# Altium footprint library imd_components.PcbLib: 16 footprints
Each footprint in its own frame and in the unit in brackets; x right, y up, seen from the top. Pads: shape width x height; smd on the part's side, far side on the other; paste and mask are expansions set on the pad; w line width, h text height; cw(c..) or ccw(c..) is an arc to the next point about the centre after c.
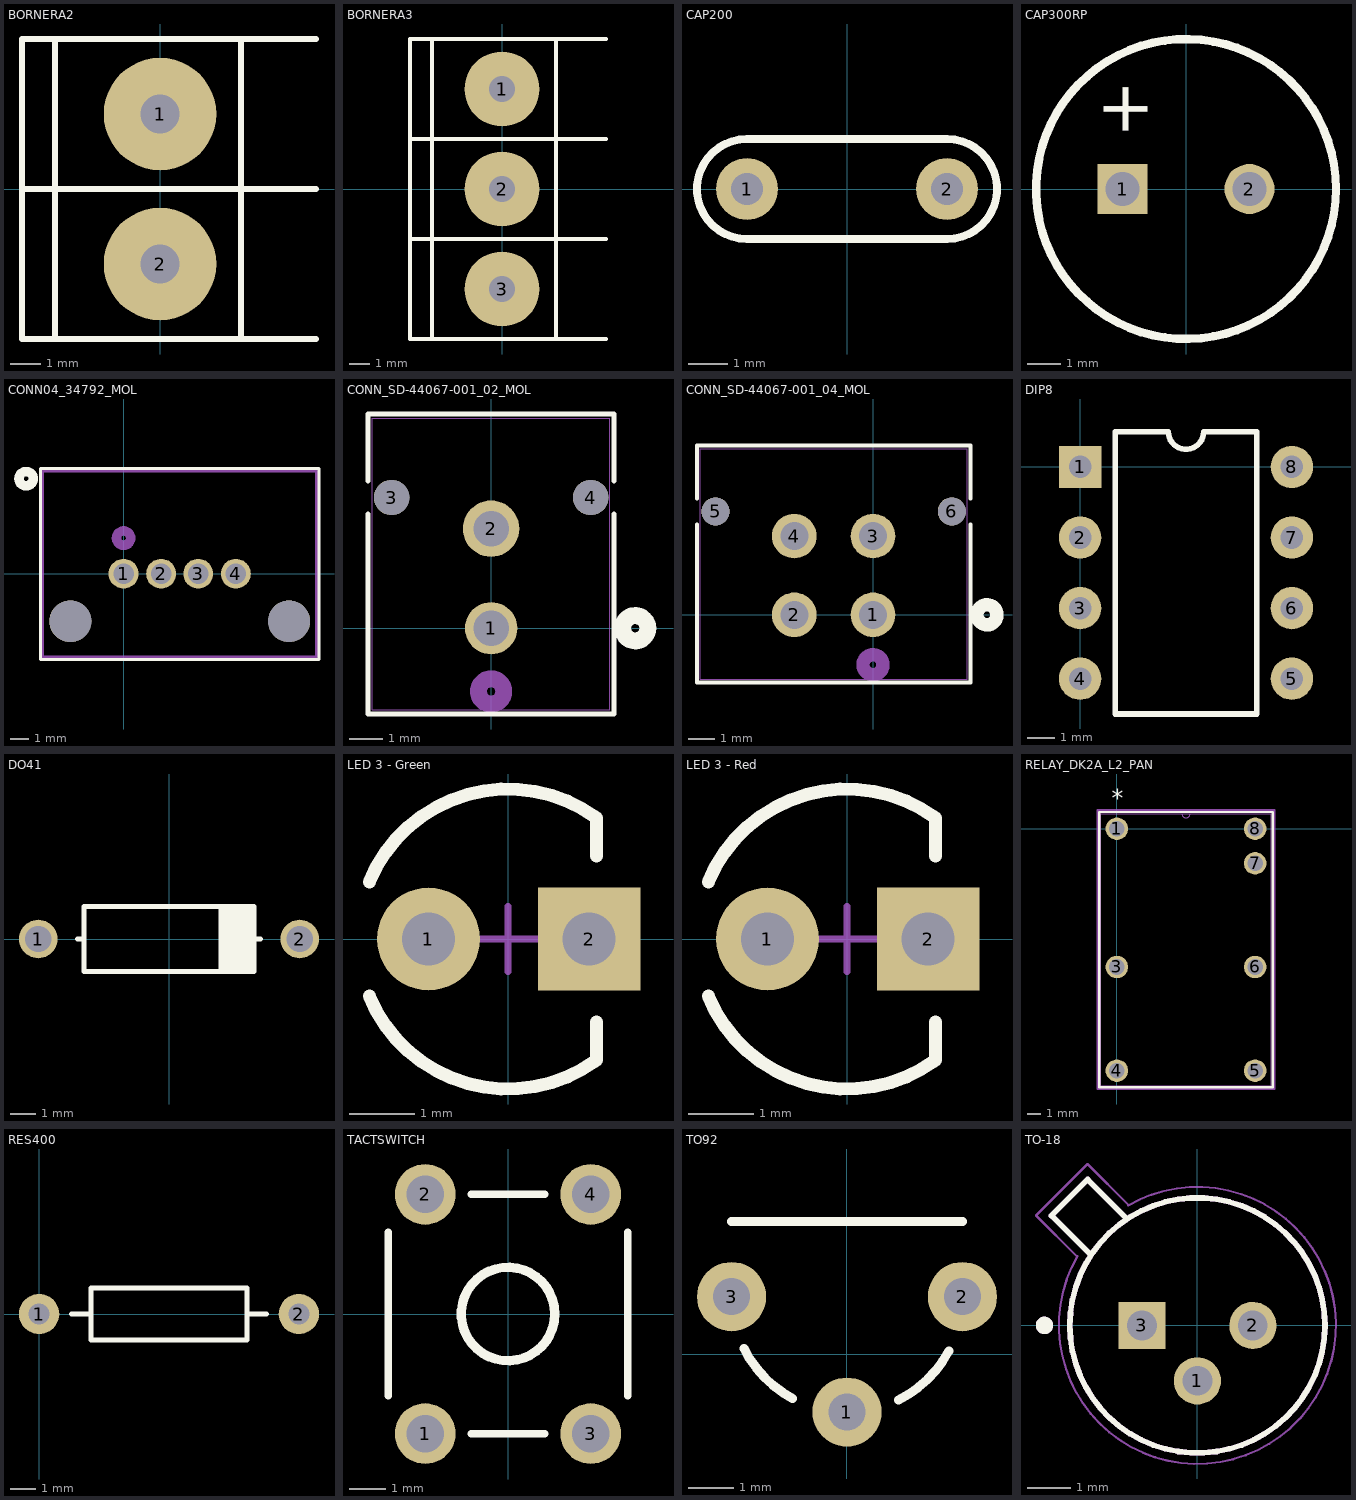
[diagram p0: the footprints below, top view; thin cyan lines are the x and y axes]

## BORNERA2 [mm] "Bornera con Tornillos 5mm separación"
pads (2):
  round 3.75 hole 1.3: 1(0,2.5) 2(0,-2.5)
Top Overlay:
  lines w0.2: -4.6,0 5.2,0 ; -3.5,-5 -3.5,5 ; 2.7,-5 2.7,5 ; 5.2,-5 -4.6,-5 -4.6,5 5.2,5
3D body "BORNERA_2.step": height 10, standoff -2.28, extent -3.763,-4.893 3.937,5.607

## BORNERA3 [mm] "Bornera con Tornillos 5mm separación"
pads (3):
  round 3.75 hole 1.3: 1(0,5) 2(0,0) 3(0,-5)
Top Overlay:
  lines w0.2: -4.6,-2.5 5.2,-2.5 ; -4.6,2.5 5.2,2.5 ; -3.5,-7.5 -3.5,7.5 ; 2.7,-7.5 2.7,7.5 ; 5.2,-7.5 -4.6,-7.5 -4.6,7.5 5.2,7.5
3D body "BORNERA_3.step": height 10.05, standoff -2.24, extent -3.763,-7.393 3.937,8.107

## CAP200 [mil]
pads (2):
  round 62 hole 32: 1(-100,0) 2(100,0)
Top Overlay:
  lines w7.87: -100,-50 cw(c-100,0) -100,50 100,50 cw(c100,0) 100,-50 -100,-50
3D body "CAP200.step": height 245.67, standoff -54.33, extent -110,-46 110,44

## CAP300RP [mm]
pads (2):
  rect 1.5x1.5 hole 1.016: 1(-1.905,0)
  round 1.5 hole 1.016: 2(1.905,0)
Top Overlay:
  circle w0.254: c0,0 r4.5
  text "+" at -1.143,1.524 h1.52

## CONN04_34792_MOL [mil]
pads (6):
  round 63 hole 43: 1(0,0) 2(79,0) 3(157,0) 4(236,0)
  round 88 hole 88 unplated: ""(-112,-100) ""(348,-100)
Top Overlay:
  lines w6: -175,-180 411,-180 411,221 -175,221 -175,-180
  lines w20: -220,200 ccw(c-205,200) -190,200 ccw(c-205,200) -220,200
Bottom Overlay:
  lines w20: -220,200 ccw(c-205,200) -190,200 ccw(c-205,200) -220,200
Mechanical 13:
  lines w6: -170,-175 406,-175 406,216 -170,216 -170,-175
  lines w20: -15,75 ccw(c0,75) 15,75 ccw(c0,75) -15,75
3D body "347920040.stp": height 555.61, standoff -166.04, extent -169.64,-175.97 405.88,218.33

## CONN_SD-44067-001_02_MOL [mil]
pads (4):
  round 62 hole 42 paste-31 mask+0: 1(0,0)
  round 66.93 / inner round 62 / far side round 62 hole 42 paste-31 mask+0: 2(0,118.11)
  round 42 hole 42 unplated paste+0 mask+0: 3(-118.11,155.12) 4(118.11,155.12)
Top Overlay:
  circle w20: c171,0 r15
  lines w6: -146,135.5 -146,-101.79 146,-101.79 146,135.5 ; -146,174.74 -146,254.21 146,254.21 146,174.74
Bottom Overlay:
  circle w20: c171,0 r15
Mechanical 13:
  circle w20: c0,-75 r15
  lines w1: -141,-96.79 -141,249.21 141,249.21 141,-96.79 -141,-96.79
3D body "0440670201.stp": height 390.66, standoff -157.37, extent -140.74,-96.29 140.76,250.17

## CONN_SD-44067-001_04_MOL [mm]
pads (6):
  round 1.7 / inner round 1.575 / far side round 1.575 hole 1.067 paste-0.787 mask+0: 1(0,0) 2(-3,0) 3(0,3) 4(-3,3)
  round 1.067 hole 1.067 unplated paste+0 mask+0: 5(-6,3.94) 6(3,3.94)
Top Overlay:
  circle w0.508: c4.342,0 r0.381
  lines w0.152: -6.707,3.44 -6.707,-2.585 3.707,-2.585 3.707,3.44 ; -6.707,4.44 -6.707,6.457 3.707,6.457 3.707,4.44
Bottom Overlay:
  circle w0.508: c4.342,0 r0.381
Mechanical 13:
  circle w0.508: c0,-1.905 r0.381
  lines w0.025: -6.58,-2.458 3.58,-2.458 3.58,6.33 -6.58,6.33 -6.58,-2.458
3D body "0440670401.stp": height 9.42, standoff -4.5, extent -6.472,-2.573 3.678,6.227

## DIP8 [mil]
pads (8):
  rect 60x60 hole 32: 1(0,0)
  round 60 hole 32: 2(0,-100) 3(0,-200) 4(0,-300) 5(300,-300) 6(300,-200) 7(300,-100) 8(300,0)
Top Overlay:
  lines w7.87: 50,-350 50,50 125,50 ccw(c150,50) 175,50 250,50 250,-350 50,-350
3D body "DIP8.step": height 177.17, standoff -137.8, extent -2.53,-362.6 303,62.59

## DO41 [mm]
pads (2):
  round 1.5 hole 1.016: 1(-5.08,0) 2(5.08,0)
Top Overlay:
  rectangle: 2.032,-1.27 3.302,1.27
  lines w0.2: -3.556,0 -3.302,0 ; 2.032,-1.27 2.032,1.27 ; 3.302,0 3.556,0 ; -3.302,-1.27 -3.302,1.27 3.302,1.27 3.302,-1.27 -3.302,-1.27
3D body "DO41.step": height 2.03, standoff -3.06, extent -5.461,-1.194 5.461,1.372

## LED 3 - Green [mil]
pads (2):
  round 62 hole 32: 1(-48,0)
  rect 62x62 hole 32: 2(49,0)
Top Overlay:
  lines w7.87: -83.73,-34.48 ccw(c0,0) 53.55,-73.02 53.55,-50 ; -83.73,34.48 cw(c0,0) 53.55,73.02 53.55,50
Mechanical 15:
  lines w3.94: -19.69,0 19.68,0 ; 0,-19.68 0,19.69
3D body "SW3dPS-LEDd3G.STEP": height 236.72, standoff -78.24, extent -63.5,-65.13 66.42,64.8

## LED 3 - Red [mil]
pads (2):
  round 62 hole 32: 1(-48,0)
  rect 62x62 hole 32: 2(49,0)
Top Overlay:
  lines w7.87: -83.73,-34.48 ccw(c0,0) 53.55,-73.02 53.55,-50 ; -83.73,34.48 cw(c0,0) 53.55,73.02 53.55,50
Mechanical 15:
  lines w3.94: -19.69,0 19.68,0 ; 0,-19.68 0,19.69
3D body "SW3dPS-LEDd3R.STEP": height 236.72, standoff -78.24, extent -63.51,-65.13 66.41,64.8

## RELAY_DK2A_L2_PAN [mil]
pads (7):
  round 65 hole 45 paste-32.5 mask+0: 1(0,0) 3(0,-400) 4(0,-700) 5(400,-700) 6(400,-400) 7(400,-100) 8(400,0)
Top Overlay:
  lines w6: -51,-748 -51,49 451,49 451,-748 -51,-748
  text "*" at -15,65 h50
Mechanical 13:
  lines w1: 188,44 ccw(c200,44) 212,44 ; -46,-743 -46,44 446,44 446,-743 -46,-743
Mechanical 15:
  lines w6: -56,-753 456,-753 456,54 -56,54 -56,-753
3D body "RELAY_DK2A_L2_PAN.step": height 394.02, standoff -12.01, extent -45.98,-742.99 445.98,44.02

## RES400 [mil]
pads (2):
  round 62 hole 32: 1(0,0) 2(400,0)
Top Overlay:
  lines w7.87: 50,0 80,0 ; 320,0 350,0 ; 80,-40 80,40 320,40 320,-40 80,-40
3D body "RES400.step": height 95.81, standoff -119.69, extent -12,-45 412,46

## TACTSWITCH [mil]
pads (4):
  round 65 hole 40: 1(-88.58,-127.95) 2(-88.58,127.95) 3(88.58,-127.95) 4(88.58,127.95)
Top Overlay:
  circle w10: c0,0 r50
  lines w7.87: -128.11,-87.48 -128.11,87.52 ; -39.37,-128.11 39.37,-128.11 ; -39.37,128.11 39.37,128.11 ; 128.11,-87.52 128.11,87.48
3D body "TACTSWITCH.step": height 275.59, standoff -137.8, extent -120,-155.51 124.1,155.51

## TO92 [mil]
pads (3):
  round 60 hole 32: 1(0,-50) 2(100,50) 3(-100,50)
Top Overlay:
  lines w7.87: -100,115 100,115 ; -89.44,5.28 ccw(c0,50) -47.06,-38.24 ; 44.72,-39.44 ccw(c0,50) 88.24,2.94
3D body "User Library-TO-92D.step": height 314.96, standoff -118.98, extent -109.74,-60.85 109.74,110

## TO-18 [mm]
height 5.33
pads (3):
  round 1.08 hole 0.68: 1(0,-1.27) 2(1.27,0)
  rect 1.08x1.08 / inner round 1.08 / far side rect 1.08x1.08 hole 0.68: 3(-1.27,0)
Top Overlay:
  circle w0.2: c-3.5,0 r0.1
  circle w0.127: c0,0 r2.92
  lines w0.127: -2.437,1.61 -3.341,2.514 -2.514,3.341 -1.61,2.437
Mechanical 13:
  circle w0.2: c-3.5,0 r0.1
  circle w0.127: c0,0 r2.92
  lines w0.127: -2.437,1.61 -3.341,2.514 -2.514,3.341 -1.61,2.437
Mechanical 15:
  lines w0.05: -2.753,1.572 -3.695,2.514 -2.514,3.695 -1.572,2.753 ; -2.745,1.586 ccw(c0.001,0) -2.241,-2.242 ccw(c0,0) 2.242,2.242 ccw(c0,-0.001) -1.586,2.745
3D body "step_temp.STEP": height 5.31, standoff -12.69, extent -3.302,-2.993 2.866,3.175